# Altium footprint library 晶振.PcbLib: 4 footprints
Each footprint in its own frame and in the unit in brackets; x right, y up, seen from the top. Pads: shape width x height; smd on the part's side, far side on the other; paste and mask are expansions set on the pad; w line width, h text height; cw(c..) or ccw(c..) is an arc to the next point about the centre after c.
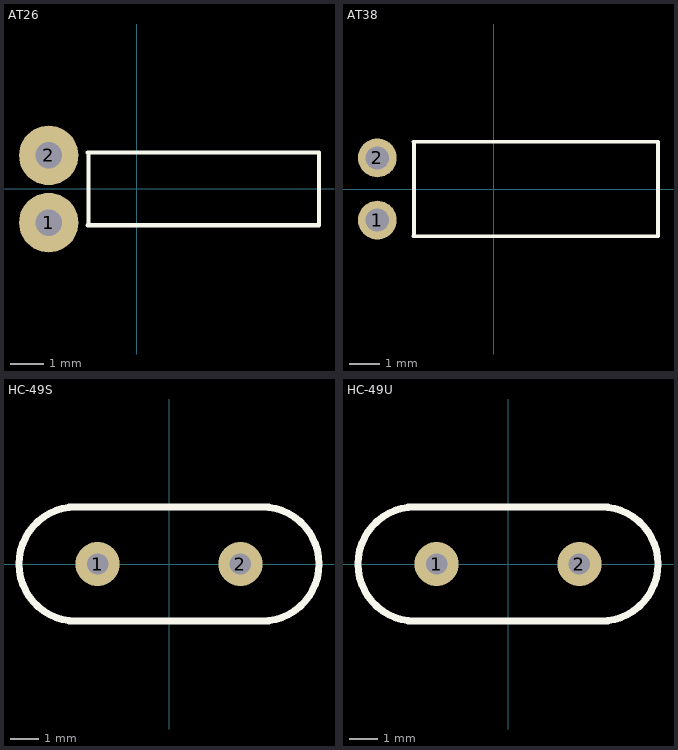
[diagram p0: the footprints below, top view; thin cyan lines are the x and y axes]

## AT26 [mm]
pads (2):
  round 1.8 hole 0.8: 1(-2.667,-1.025) 2(-2.667,1.007)
Top Overlay:
  rectangle: -1.531,-1.108 -1.397,1.092
  lines w0.127: -1.486,-1.108 5.514,-1.108 5.514,1.092 -1.486,1.092
3D body: height 1.05, standoff -1.05, extent -5.473,-1.149 5.727,1.651

## AT38 [mil]
pads (2):
  round 50 hole 30: 1(-150,-40.16) 2(-150,40.16)
Top Overlay:
  rectangle: -105.28,-61.02 -100,61.02
  lines w5: -103.51,-61.02 212.21,-61.02 212.21,61.02 -103.51,61.02

## HC-49S [mil]
pads (2):
  round 62 hole 30: 1(-100,0) 2(100,0)
Top Overlay:
  lines w10: -130,-80 cw(c-130,0) -130,80 130,80 cw(c130,0) 130,-80 -130,-80
3D body: height 121.8, standoff -100, extent -210,-60 210,60

## HC-49U [mil]
pads (2):
  round 62 hole 30: 1(-100,0) 2(100,0)
Top Overlay:
  lines w10: -130,-80 cw(c-130,0) -130,80 130,80 cw(c130,0) 130,-80 -130,-80